# Altium footprint library Connector Footprints.PcbLib: 14 footprints
Each footprint in its own frame and in the unit in brackets; x right, y up, seen from the top. Pads: shape width x height; smd on the part's side, far side on the other; paste and mask are expansions set on the pad; w line width, h text height; cw(c..) or ccw(c..) is an arc to the next point about the centre after c.
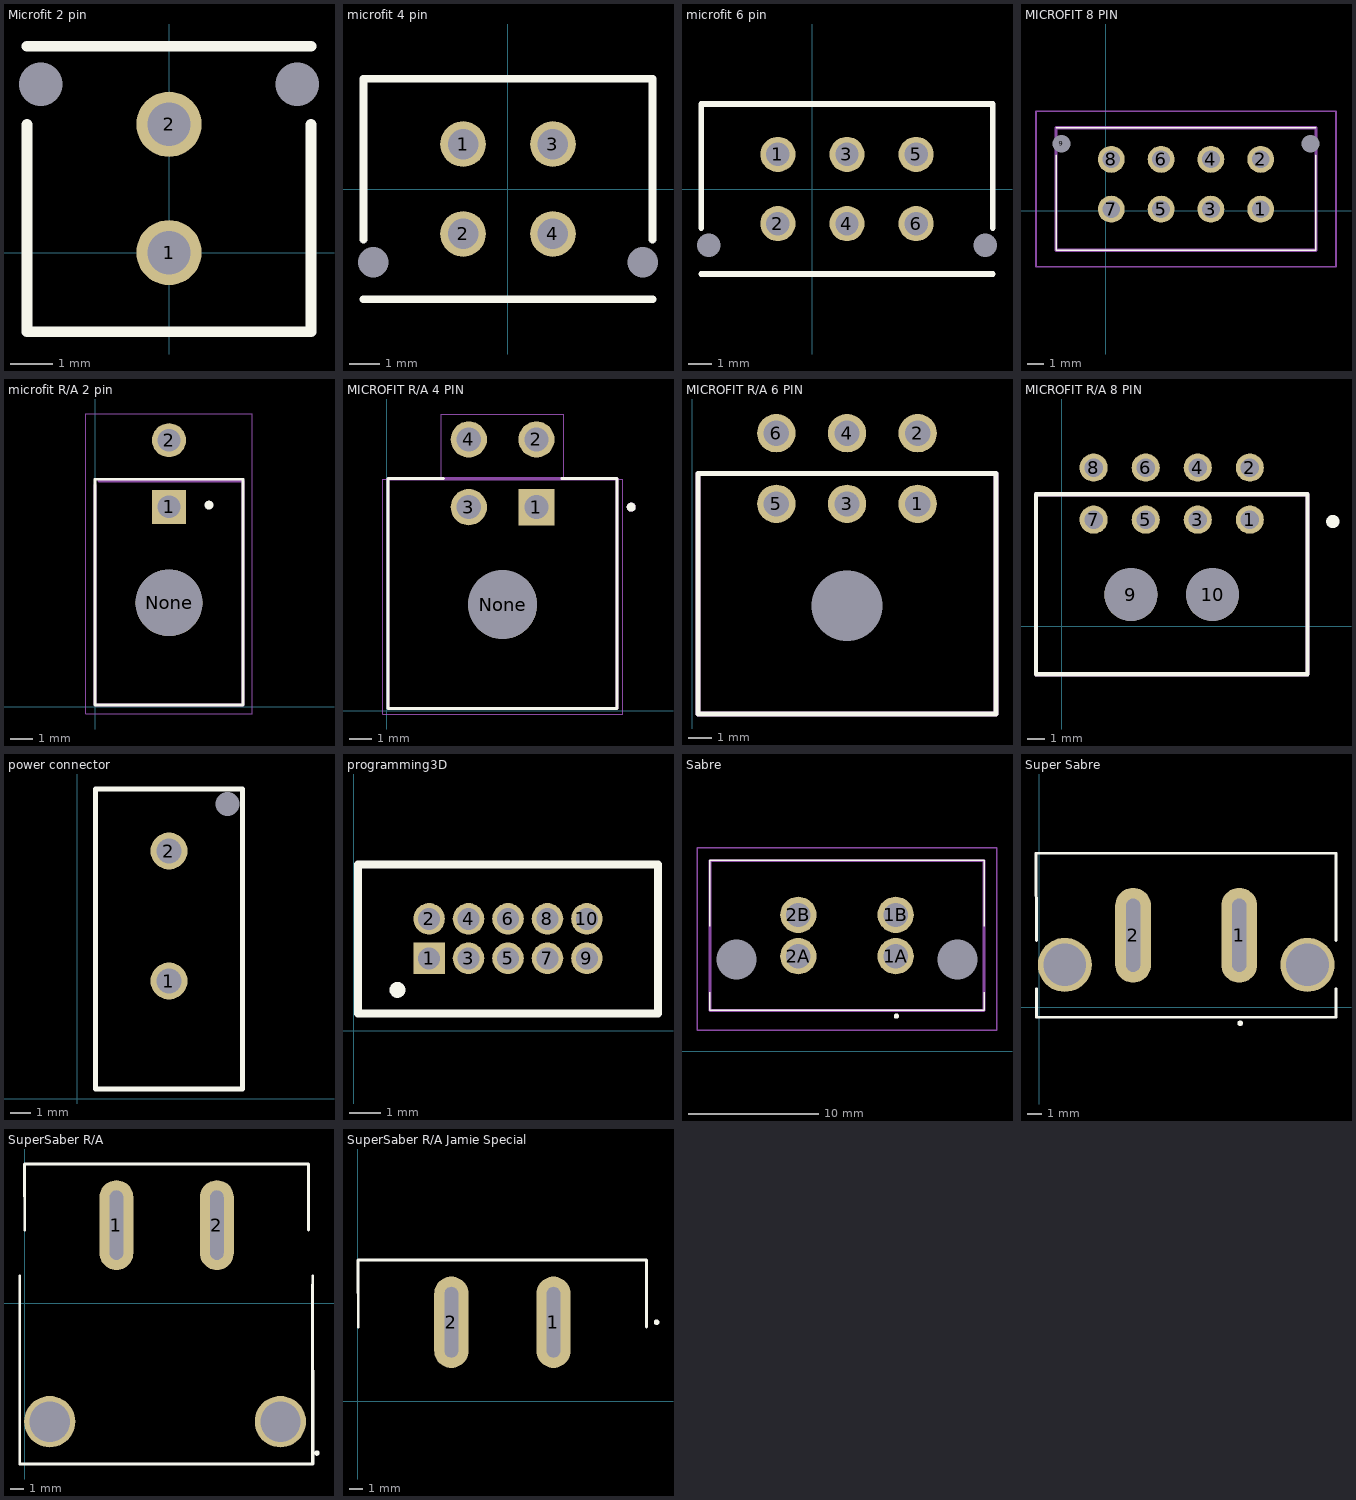
[diagram p0: the footprints below, top view; thin cyan lines are the x and y axes]

## Microfit 2 pin [mil] "Molex Micro fit 3.0"
pads (4):
  round 60 hole 40: 1(0,0) 2(0,118.11)
  round 0 hole 40 unplated: ""(-118.11,155.12) ""(118.11,155.12)
Top Overlay:
  lines w10: -130.91,118.11 -130.91,-72.83 130.91,-72.83 130.91,118.11 ; -130.91,189.96 130.91,189.96
3D body "Molex2(Micropossibly).stp": height 390.66, standoff -124.7, extent -140,-96.64 141.5,248.64

## microfit 4 pin [mil] "Molex micro-fit 3.0 4 pos"
pads (6):
  round 60 hole 40: 1(-59.06,59.06) 2(-59.06,-59.06) 3(59.06,59.06) 4(59.06,-59.06)
  round 0 hole 40 unplated: 7(177.17,-96.06) ""(-177.17,-96.06)
Top Overlay:
  lines w10: -189.96,-145.08 189.96,-145.08 ; -189.96,-66.34 -189.96,145.08 189.96,145.08 189.96,-66.34
3D body "430450427.stp": height 390.66, standoff -124.7, extent -200,-186.64 199.6,158.64

## microfit 6 pin [mil] "Molex micro-fit 3.0 6 position"
pads (8):
  round 60 hole 40: 1(-59.06,59.06) 2(-59.06,-59.06) 3(59.06,59.06) 4(59.06,-59.06) 5(177.17,59.06) 6(177.17,-59.06)
  round 0 hole 40 unplated: 7(295.28,-96.06) ""(-177.17,-96.06)
Top Overlay:
  lines w10: -189.96,-145.08 308.07,-145.08 ; -189.96,-66.34 -189.96,145.08 308.07,145.08 308.07,-66.34
3D body "430450627.stp": height 390.66, standoff -124.7, extent -199.8,-187.16 317.91,158.12

## MICROFIT 8 PIN [mm]
pads (10):
  round 1.62 hole 1.07: 1(9.322,0.102) 2(9.322,3.102) 3(6.322,0.102) 4(6.322,3.102) 5(3.322,0.102) 6(3.322,3.102) 7(0.322,0.102) 8(0.322,3.102)
  round 0.535 hole 1.07 unplated: 9(-2.678,4.042) 10(12.322,4.042)
Top Overlay:
  lines w0.1: -3.003,3.358 -3.003,-2.368 12.647,-2.368 12.647,3.358 ; -3.003,5.002 12.647,5.002
Mechanical 13:
  lines w0.2: -3.003,-2.368 -3.003,5.002 12.647,5.002 12.647,-2.368 -3.003,-2.368
Mechanical 15:
  lines w0.1: -4.213,-3.368 -4.213,6.002 13.857,6.002 13.857,-3.368 -4.213,-3.368
3D body "43045-0812.stp": height 9.92, standoff -3.17, extent -3.223,-2.37 12.927,6.4

## microfit R/A 2 pin [mm]
pads (3):
  rect 1.53x1.53 hole 1.02: 1(3.317,8.99)
  round 1.53 hole 1.02: 2(3.317,11.99)
  round 3 hole 3 unplated: None(3.317,4.67)
Top Overlay:
  circle w0.2: c5.117,9.07 r0.1
  lines w0.127: -0.008,0.07 -0.008,10.236 6.642,10.236 6.642,0.07 -0.008,0.07
Mechanical 4:
  lines w0.127: -0.008,0.07 -0.008,9.98 -0.008,0.07 ; -0.008,0.07 6.642,0.07 ; -0.008,0.07 6.642,0.07 ; 6.642,0.07 6.642,10.16 ; 6.642,0.07 6.642,10.16 ; 6.642,10.16 0.172,10.16 6.642,10.16
Mechanical 16:
  lines w0.05: -0.433,-0.33 -0.433,13.17 7.067,13.17 7.067,-0.33 -0.433,-0.33
3D body "430450200.stp": height 8.78, standoff -3.17, extent -0.248,0.051 6.902,12.291

## MICROFIT R/A 4 PIN [mm]
pads (5):
  rect 1.605x1.605 hole 1.07: 1(6.631,9.019)
  round 1.605 hole 1.07: 2(6.631,12.019) 3(3.631,9.019) 4(3.631,12.019)
  round 3.05 hole 3.05 unplated: None(5.131,4.699)
Top Overlay:
  circle w0.2: c10.831,9.019 r0.1
  lines w0.127: 2.511,10.287 0.056,10.287 0.056,0.099 10.206,0.099 10.206,10.287 7.751,10.287
Mechanical 4:
  circle w0.2: c10.831,9.019 r0.1
  circle w0.2: c10.831,9.019 r0.1
  lines w0.127: 0.056,0.099 0.056,10.287 10.206,10.287 10.206,0.099 ; 0.056,0.099 10.206,0.099 ; 0.056,0.099 0.056,10.262 10.206,10.262 10.206,0.099 ; 0.056,0.099 10.206,0.099
Mechanical 16:
  lines w0.05: -0.194,-0.151 10.456,-0.151 10.456,10.259 7.845,10.259 7.845,13.149 2.417,13.149 2.417,10.259 -0.194,10.259 -0.194,-0.151
3D body "430450400.stp": height 8.78, standoff -3.17, extent 0.056,0.074 10.206,12.314

## MICROFIT R/A 6 PIN [mm]
pads (7):
  round 1.63 hole 1.07: 1(9.579,11.94) 2(9.579,14.94) 3(6.579,11.94) 4(6.579,14.94) 5(3.579,11.94) 6(3.579,14.94)
  round 0 hole 3 unplated: 7(6.579,7.62)
Top Overlay:
  lines w0.2: 0.254,3.02 12.904,3.02 12.904,13.233 0.254,13.233 0.254,3.02
Mechanical 13:
  lines w0.2: 0.254,3.02 12.904,3.02 12.904,13.233 0.254,13.233 0.254,3.02
3D body "43045-0600.stp": height 8.28, standoff -3.67, extent -0.022,3.127 13.128,15.367

## MICROFIT R/A 8 PIN [mm]
pads (10):
  round 1.62 hole 1.07: 1(10.85,6.149) 2(10.85,9.149) 3(7.85,6.149) 4(7.85,9.149) 5(4.85,6.149) 6(4.85,9.149) 7(1.85,6.149) 8(1.85,9.149)
  round 3.05 hole 3.05 unplated: 9(4,1.829) 10(8.7,1.829)
Top Overlay:
  circle w0.4: c15.636,6.043 r0.183
  lines w0.254: -1.475,-2.771 14.175,-2.771 14.175,7.62 -1.475,7.62 -1.475,-2.771
Mechanical 13:
  lines w0.254: -1.475,-2.771 -1.475,7.62 14.175,7.62 14.175,-2.771 -1.475,-2.771
3D body "0430450800.stp": height 8.74, standoff -3.2, extent -1.725,-2.731 14.425,9.509

## power connector [mm]
pads (3):
  round 1.85 hole 1.25: 1(4.59,5.898) 2(4.59,12.398)
  round 0 hole 1.2 unplated: 9(7.51,14.748)
Top Layer:
  region: 5.746,3.673
Top Overlay:
  lines w0.254: 0.92,0.498 8.26,0.498 8.26,15.498 0.92,15.498 0.92,0.498
3D body "1510482204.stp": height 16.01, standoff -3.79, extent 0.915,0.501 8.255,15.501

## programming3D [mil]
pads (10):
  rect 40x40 hole 28 mask+3: 1(95.28,91.77)
  round 40 hole 28 mask+3: 2(95.28,141.77) 3(145.28,91.77) 4(145.28,141.77) 5(195.28,91.77) 6(195.28,141.77) 7(245.28,91.77) 8(245.28,141.77) 9(295.28,91.77) 10(295.28,141.77)
Top Overlay:
  circle w10: c55.28,51.77 r5
  lines w10: 5.28,21.77 5.28,210.77 385.28,210.77 385.28,21.77 5.28,21.77
Top Solder:
  rectangle: 70.28,66.77 320.28,166.77
Bottom Solder:
  rectangle: 70.28,66.77 320.28,166.77
3D body "FTSH-105-01-F-D-K.stp": height 225.5, standoff -89.5, extent 70.28,19.01 320.28,219.01

## Sabre [mm]
pads (6):
  round 2.79 hole 1.86: 1A(16.672,7.314) 1B(16.672,10.494) 2A(9.182,7.314) 2B(9.182,10.494)
  round 0 hole 3.08 unplated: ""(4.432,7.064) ""(21.422,7.064)
Top Overlay:
  lines w0.1: 2.387,4.524 2.387,3.139 23.087,3.139 23.467,3.139 23.467,4.524 ; 2.387,9.604 2.387,14.684 23.467,14.684 23.467,9.604
  lines w0.2: 16.627,2.703 cw(c16.728,2.703) 16.828,2.703 cw(c16.727,2.704) 16.627,2.704
Mechanical 15:
  lines w0.2: 2.387,3.139 23.467,3.139 23.467,14.669 2.387,14.669 2.387,3.139
Mechanical 20:
  lines w0.1: 1.387,1.603 24.467,1.603 24.467,15.669 1.387,15.669 1.387,1.603
3D body "Saber_4_Hole.stp": height 14.77, standoff -3.8, extent 2.464,0.737 23.546,14.122

## Super Sabre [mil]
pads (4):
  oval 99x263 hole 203 slot 39 at 0 deg: 1(553.55,199.71) 2(259.55,199.71)
  round 150 hole 118: ""(70.55,117.71) ""(742.55,117.71)
Top Overlay:
  lines w3.94: -8.45,426.71 821.51,426.71 ; -8.41,-26.82 806.55,-26.82 821.51,-26.82
  lines w7.87: -9.45,426.71 -8.41,185.71 ; -8.45,426.71 821.55,426.71 821.51,185.71 ; -8.41,51.71 -8.45,-27.29 821.55,-27.29 ; 560.09,-43.94 cw(c556.16,-43.94) 552.22,-43.94 cw(c556.18,-43.96) 560.13,-43.96 ; 821.51,51.71 821.55,-26.29
3D body "1720420202.stp": height 585.5, standoff -149.66, extent -12,-105.5 818,421.5

## SuperSaber R/A [mil]
pads (4):
  oval 99x263 hole 203 slot 39 at 0 deg: 1(269,228) 2(563,228)
  round 150 hole 118: ""(74,-347) ""(749,-347)
Top Overlay:
  lines w3.94: 1.03,407 831.96,407 ; 2.74,-471 841,-471 841,54.47
  lines w7.87: -13.92,80.01 -14.19,-471 844.15,-471 843.87,80.01 ; 0.21,406.99 1.04,214 ; 1.03,407 831.03,407 ; 830.96,214 830.99,407 ; 859.92,-439 cw(c855.98,-439) 852.04,-439 cw(c856,-439) 859.96,-439
3D body "1720430202.stp": height 527.5, standoff -149.66, extent -2,-460 828,322.5

## SuperSaber R/A Jamie Special [mil]
pads (2):
  oval 99x263 hole 203 slot 39 at 0 deg: 1(563,228) 2(269,228)
Top Overlay:
  lines w3.94: 1.03,407 831.96,407
  lines w7.87: 0.21,406.99 1.04,214 ; 1.03,407 831.03,407 ; 830.96,214 830.99,407 ; 856.02,228 ccw(c859.96,228) 863.89,228 ccw(c859.94,228) 855.98,228
3D body "1720430202.stp": height 527.5, standoff -149.66, extent -2,-460 828,322.5